# EAGLE library part PRTR5V0U4D (library Domino)
Ultra low capacitance quadruple rail-to-rail ESD protection
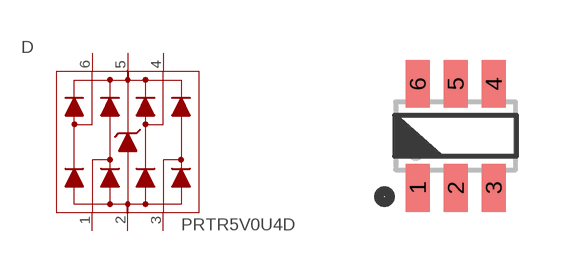
[diagram p26: symbol with the pads of SOT23-6; footprint SOT23-6]

Designator prefix D

## PRTR5V0U4D  [SOT23-6]
1  I/O1  pas
2  GND  pas
3  I/O2  pas
4  I/O3  pas
5  VCC  pas
6  I/O4  pas

## Footprint SOT23-6 (pad centres in mm)
Small Outline Transistor (SOT), 6 Pins (SOT23-6) Package
smd 0.6 x 1.2: 1 -0.95,-1.3; 2 0,-1.3; 3 0.95,-1.3; 4 0.95,1.3; 5 0,1.3; 6 -0.95,1.3